# Altium schematic symbol library CON_DB25 Box.SchLib: 1 symbol
Pins are listed as number, name and electrical type; pins without a type are passive.

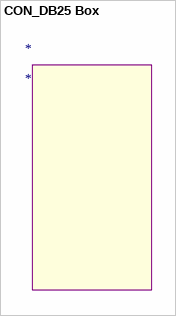
[diagram p0: symbol CON_DB25 Box]

## CON_DB25 Box
designator *